# EAGLE library part AD7998BRUZ-0 (library Analog)
8-Channel, 10- and 12-Bit ADCs with I2C-Compatible Interface
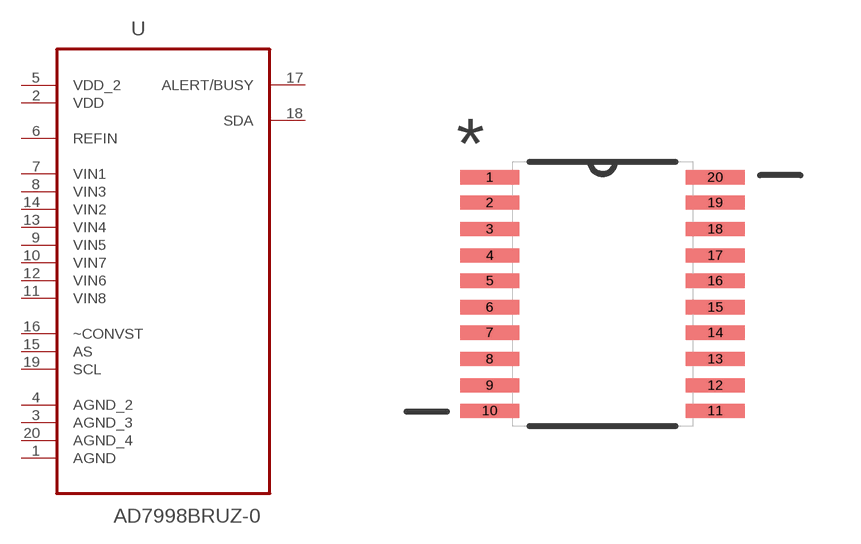
[diagram p2: symbol with the pads of SOP65P640X120-20N; footprint SOP65P640X120-20N]

Designator prefix U

## AD7998BRUZ-0 (MPN: AD7998BRUZ-0; OC_FARNELL: 1078302; OC_NEWARK: 19M0909; PACKAGE: TSSOP-20; SUPPLIER: Analog Devices)  [SOP65P640X120-20N]
1  AGND  pas
2  VDD  pwr
3  AGND_3  pas
4  AGND_2  pas
5  VDD_2  pwr
6  REFIN  in
7  VIN1  in
8  VIN3  in
9  VIN5  in
10  VIN7  in
11  VIN8  in
12  VIN6  in
13  VIN4  in
14  VIN2  in
15  AS  in
16  ~CONVST  in
17  ALERT/BUSY  out
18  SDA
19  SCL  in
20  AGND_4  pas

## Footprint SOP65P640X120-20N (pad centres in mm)
smd 1.473 x 0.356: 1 -2.819,2.921; 2 -2.819,2.286; 3 -2.819,1.626; 4 -2.819,0.965; 5 -2.819,0.33; 6 -2.819,-0.33; 7 -2.819,-0.965; 8 -2.819,-1.626; 9 -2.819,-2.286; 10 -2.819,-2.921; 11 2.819,-2.921; 12 2.819,-2.286; 13 2.819,-1.626; 14 2.819,-0.965; 15 2.819,-0.33; 16 2.819,0.33; 17 2.819,0.965; 18 2.819,1.626; 19 2.819,2.286; 20 2.819,2.921